# EAGLE library part LIDAR (library LIDAR)
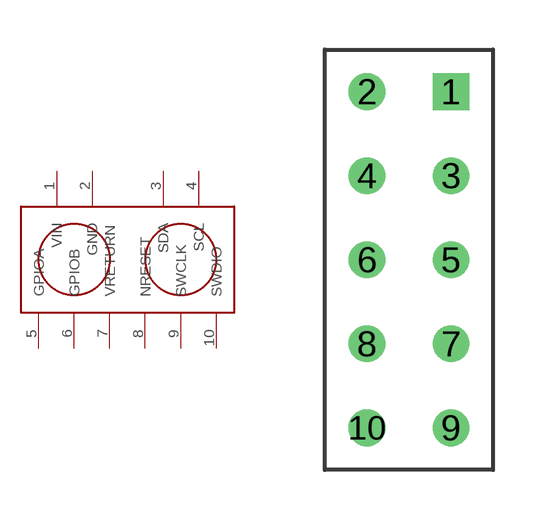
[diagram p0: symbol with the pads of LIDAR; footprint LIDAR]

Designator prefix -

## LIDAR  [LIDAR]
1  VIN
2  GND
3  SDA
4  SCL
5  GPIOA
6  GPIOB
7  VRETURN
8  NRESET
9  SWCLK
10  SWDIO

## Footprint LIDAR (pad centres in mm)
drill 0.6 square: 1 1.27,5.08
drill 0.6: 2 -1.27,5.08; 3 1.27,2.54; 4 -1.27,2.54; 5 1.27,0; 6 -1.27,0; 7 1.27,-2.54; 8 -1.27,-2.54; 9 1.27,-5.08; 10 -1.27,-5.08